# Altium footprint library MELF4.PcbLib: 1 footprints
Each footprint in its own frame and in the unit in brackets; x right, y up, seen from the top. Pads: shape width x height; smd on the part's side, far side on the other; paste and mask are expansions set on the pad; w line width, h text height; cw(c..) or ccw(c..) is an arc to the next point about the centre after c.
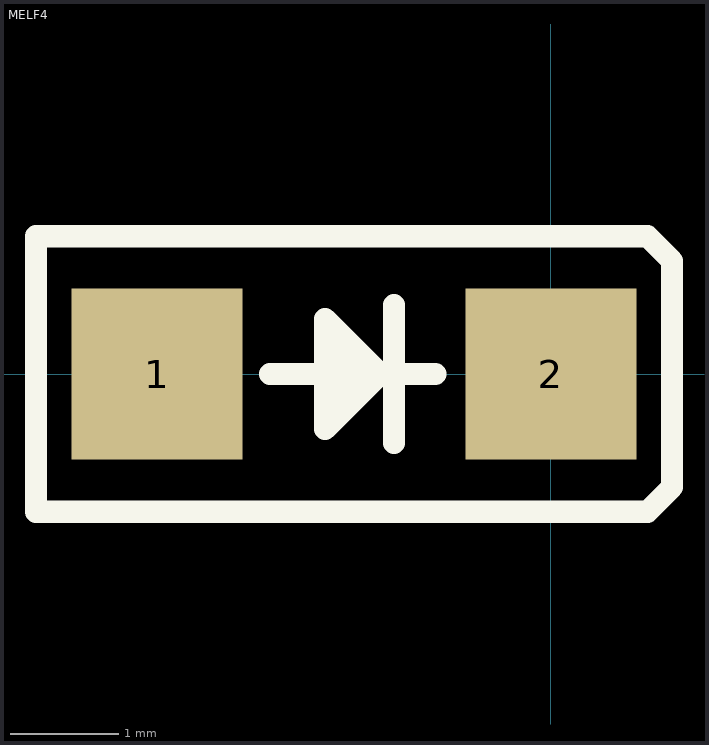
[diagram p0: the footprint, top view; thin cyan lines are the x and y axes]

## MELF4 [mil]
height 100
pads (2):
  rect 62x62 smd: 1(-143,0) 2(0,0)
TopOverlay:
  lines w8: -102,0 -82,0 ; -77,10 -77,-5 -77,-10 -72,-5 -72,5 ; -57,-25 -57,25 ; -42,0 -82,0 ; -82,0 -82,-20 -62,0 -82,20 -82,0 ; -187,-50 -187,50 5,50 10,50 35,50 44,41 44,-41 35,-50 10,-50 -187,-50
Mechanical4:
  text ".095" at -170,0 h1
  text ".1" at 0,0 h1